# Altium footprint library WCAP-ASNP_4X5.5(DXL).PcbLib: 1 footprints
Each footprint in its own frame and in the unit in brackets; x right, y up, seen from the top. Pads: shape width x height; smd on the part's side, far side on the other; paste and mask are expansions set on the pad; w line width, h text height; cw(c..) or ccw(c..) is an arc to the next point about the centre after c.
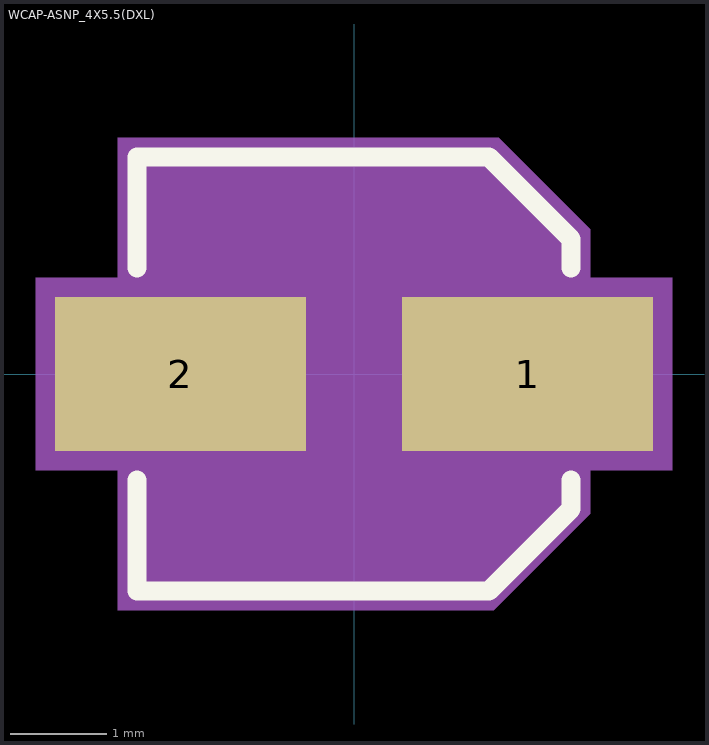
[diagram p0: the footprint, top view; thin cyan lines are the x and y axes]

## WCAP-ASNP_4X5.5(DXL) [mm]
pads (2):
  rect 2.6x1.6 smd paste+0 mask+0.102: 1(1.8,0) 2(-1.8,0)
Top Overlay:
  lines w0.2: -2.25,-1.1 -2.25,-2.25 1.4,-2.25 2.25,-1.4 2.25,-1.1 ; -2.25,1.1 -2.25,2.25 1.4,2.25 2.25,1.4 2.25,1.1
Assembly Top:
  circle w0.1: c0,0 r2
  lines w0.1: -2.15,-2.15 -2.15,2.15 1.35,2.15 2.15,1.35 2.15,-1.35 1.35,-2.15 -2.15,-2.15
Courtyard Top:
  region: 2.45,1.5 2.45,1 3.3,1 3.3,-1 2.45,-1 2.45,-1.45 1.45,-2.45 -2.45,-2.45 -2.45,-1 -3.3,-1 -3.3,1 -2.45,1 -2.45,2.45 1.5,2.45
3D body "Download_STP_865250x4000x+%28rev1%29.stp": height 5.38, standoff -0.12, extent -2.627,-2.15 2.373,2.15